# EAGLE library part PIC16LF1829-I_SO (library Deegou_IC)
Microchip PIC16LF1829-I/SO, 8bit PIC Microcontroller, 32MHz, 8k words Flash, 20-Pin SOIC Source: Datasheet <http://ww1.microchip.com/downloads/en/DeviceDoc/40001440E.pdf>
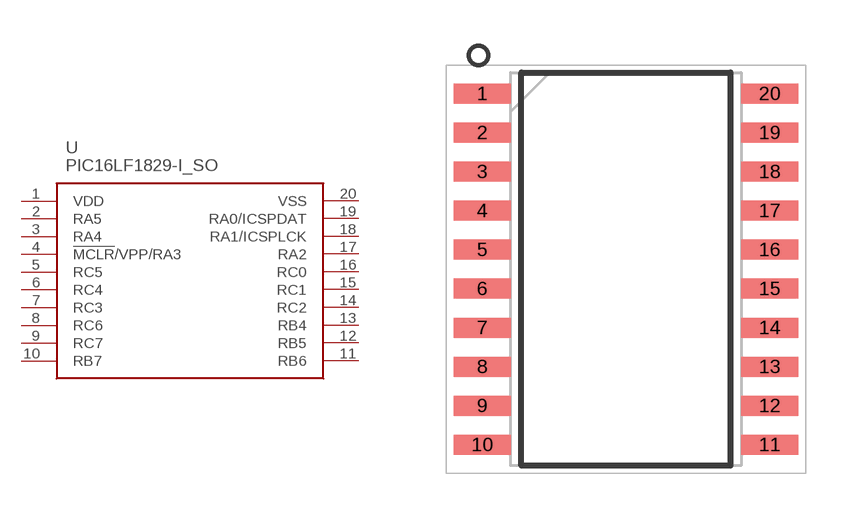
[diagram p175: symbol with the pads of SOIC127P1030X265-20N; footprint SOIC127P1030X265-20N]

Designator prefix U

## PIC16LF1829-I_SO (DESCRIPTION: Microchip PIC16LF1829-I/SO, 8bit PIC Microcontroller, 32MHz, 8k words Flash, 20-Pin SOIC; HEIGHT: 2.65mm; MANUFACTURER_NAME: Microchip; MANUFACTURER_PART_NUMBER: PIC16LF1829-I/SO; MOUSER_PART_NUMBER: 579-PIC16LF1829-I/SO; MOUSER_PRICE-STOCK: https://www.mouser.com/Search/Refine.aspx?Keyword=579-PIC16LF1829-I%2FSO; RS_PART_NUMBER: 8248786P; RS_PRICE-STOCK: http://uk.rs-online.com/web/p/products/8248786P)  [SOIC127P1030X265-20N]
1  VDD
2  RA5
3  RA4
4  !MCLR!/VPP/RA3
5  RC5
6  RC4
7  RC3
8  RC6
9  RC7
10  RB7
11  RB6
12  RB5
13  RB4
14  RC2
15  RC1
16  RC0
17  RA2
18  RA1/ICSPLCK
19  RA0/ICSPDAT
20  VSS

## Footprint SOIC127P1030X265-20N (pad centres in mm)
20-Lead Plastic Small Outline (SO) - Wide, 7.50 mm Body [SOIC]
smd 1.85 x 0.65: 1 -4.675,5.715; 2 -4.675,4.445; 3 -4.675,3.175; 4 -4.675,1.905; 5 -4.675,0.635; 6 -4.675,-0.635; 7 -4.675,-1.905; 8 -4.675,-3.175; 9 -4.675,-4.445; 10 -4.675,-5.715; 11 4.675,-5.715; 12 4.675,-4.445; 13 4.675,-3.175; 14 4.675,-1.905; 15 4.675,-0.635; 16 4.675,0.635; 17 4.675,1.905; 18 4.675,3.175; 19 4.675,4.445; 20 4.675,5.715